# Altium schematic symbol library JS-1150.SchLib: 1 symbol
Pins are listed as number, name and electrical type; pins without a type are passive.

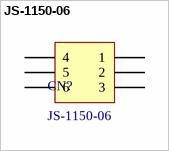
[diagram p0: symbol JS-1150-06]

## JS-1150-06
designator CN?
footprint JS-1150-06
pins: 1, 2, 3, 4, 5, 6